# Altium integrated library JST SH Connectors.IntLib: 15 symbols
Pins are listed as number, name and electrical type; pins without a type are passive.

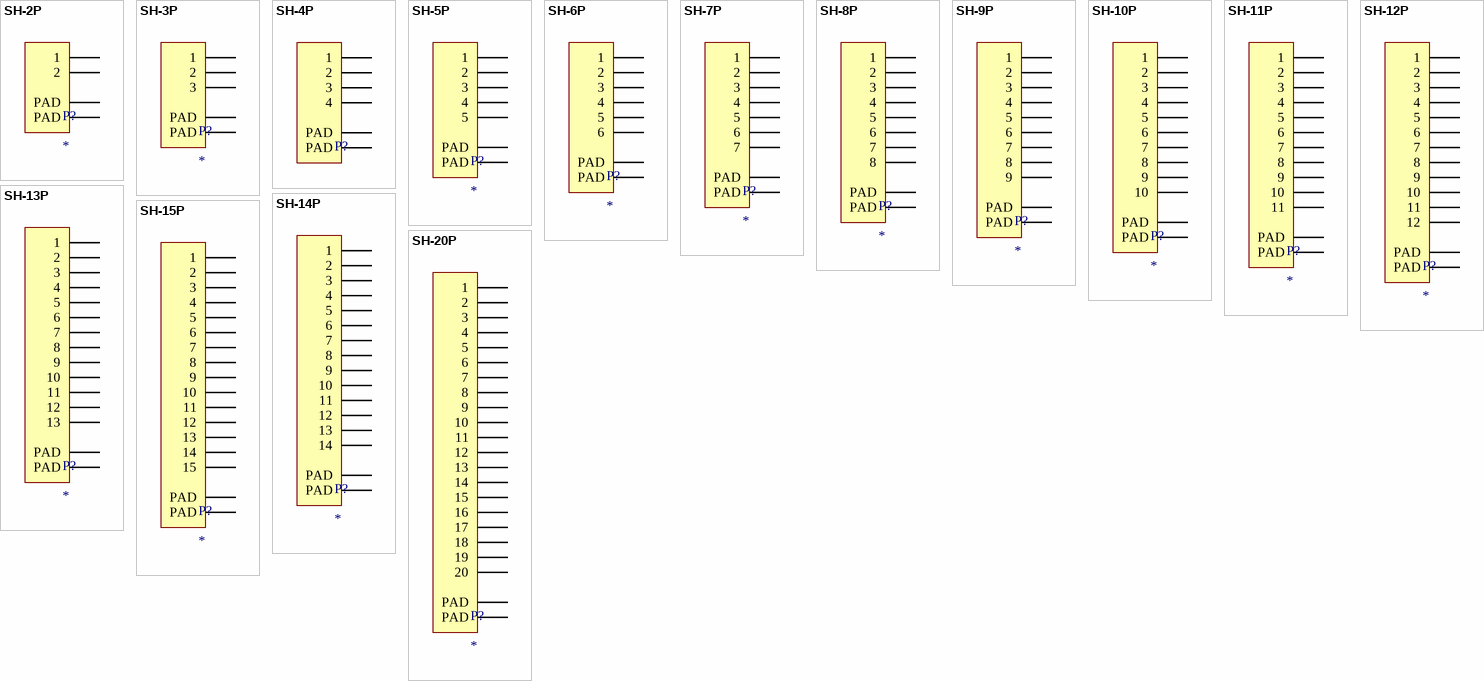
[diagram p0: symbols SH-2P to SH-20P]

## SH-2P
designator P?
1.0A, 50V, 1.0mm pitch connector
footprint SM02B-SRSS-TB
footprint BM02B-SRSS-TB
pins: 0 PAD, 1, 2, 100 PAD

## SH-3P
designator P?
1.0A, 50V, 1.0mm pitch connector
footprint SM03B-SRSS-TB
footprint BM03B-SRSS-TB
pins: 0 PAD, 1, 2, 3, 100 PAD

## SH-4P
designator P?  (value not drawn)
1.0A, 50V, 1.0mm pitch connector
footprint SM04B-SRSS-TB
footprint BM04B-SRSS-TB
pins: 0 PAD, 1, 2, 3, 4, 100 PAD

## SH-5P
designator P?
1.0A, 50V, 1.0mm pitch connector
footprint SM05B-SRSS-TB
footprint BM05B-SRSS-TB
pins: 0 PAD, 1, 2, 3, 4, 5, 100 PAD

## SH-6P
designator P?
1.0A, 50V, 1.0mm pitch connector
footprint SM06B-SRSS-TB
footprint BM06B-SRSS-TB
pins: 0 PAD, 1, 2, 3, 4, 5, 6, 100 PAD

## SH-7P
designator P?
1.0A, 50V, 1.0mm pitch connector
footprint SM07B-SRSS-TB
footprint BM07B-SRSS-TB
pins: 0 PAD, 1, 2, 3, 4, 5, 6, 7, 100 PAD

## SH-8P
designator P?
1.0A, 50V, 1.0mm pitch connector
footprint SM08B-SRSS-TB
footprint BM08B-SRSS-TB
pins: 0 PAD, 1, 2, 3, 4, 5, 6, 7, 8, 100 PAD

## SH-9P
designator P?
1.0A, 50V, 1.0mm pitch connector
footprint SM09B-SRSS-TB
footprint BM09B-SRSS-TB
pins: 0 PAD, 1, 2, 3, 4, 5, 6, 7, 8, 9, 100 PAD

## SH-10P
designator P?
1.0A, 50V, 1.0mm pitch connector
footprint SM10B-SRSS-TB
footprint BM10B-SRSS-TB
pins: 0 PAD, 1, 2, 3, 4, 5, 6, 7, 8, 9, 10, 100 PAD

## SH-11P
designator P?
1.0A, 50V, 1.0mm pitch connector
footprint SM11B-SRSS-TB
footprint BM11B-SRSS-TB
pins: 0 PAD, 1, 2, 3, 4, 5, 6, 7, 8, 9, 10, 11, 100 PAD

## SH-12P
designator P?
1.0A, 50V, 1.0mm pitch connector
footprint SM12B-SRSS-TB
footprint BM12B-SRSS-TB
pins: 0 PAD, 1, 2, 3, 4, 5, 6, 7, 8, 9, 10, 11, 12, 100 PAD

## SH-13P
designator P?
1.0A, 50V, 1.0mm pitch connector
footprint SM13B-SRSS-TB
footprint BM13B-SRSS-TB
pins: 0 PAD, 1, 2, 3, 4, 5, 6, 7, 8, 9, 10, 11, 12, 13, 100 PAD

## SH-14P
designator P?
1.0A, 50V, 1.0mm pitch connector
footprint SM14B-SRSS-TB
footprint BM14B-SRSS-TB
pins: 0 PAD, 1, 2, 3, 4, 5, 6, 7, 8, 9, 10, 11, 12, 13, 14, 100 PAD

## SH-15P
designator P?
1.0A, 50V, 1.0mm pitch connector
footprint SM15B-SRSS-TB
footprint BM15B-SRSS-TB
pins: 0 PAD, 1, 2, 3, 4, 5, 6, 7, 8, 9, 10, 11, 12, 13, 14, 15, 100 PAD

## SH-20P
designator P?
1.0A, 50V, 1.0mm pitch connector
footprint SM20B-SRSS-TB
pins: 0 PAD, 1, 2, 3, 4, 5, 6, 7, 8, 9, 10, 11, 12, 13, 14, 15, 16, 17, 18, 19, 20, 100 PAD